# EAGLE library part 1013279X_AMPHENOL_2X25 (library ck)
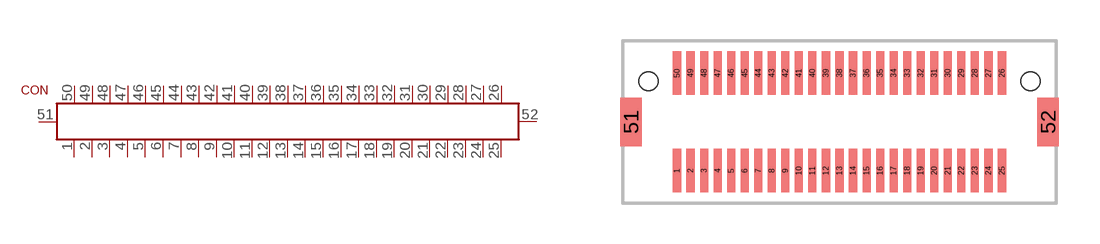
[diagram p29: symbol with the pads of 10132798-052100LF; footprint 10132798-052100LF]

Designator prefix CON

## 1013279X_AMPHENOL_2X25  [10132798-052100LF]
1  P$1
2  P$2
3  P$3
4  P$4
5  P$5
6  P$6
7  P$7
8  P$8
9  P$9
10  P$10
11  P$11
12  P$12
13  P$13
14  P$14
15  P$15
16  P$16
17  P$17
18  P$18
19  P$19
20  P$20
21  P$21
22  P$22
23  P$23
24  P$24
25  P$25
26  P$26
27  P$27
28  P$28
29  P$29
30  P$30
31  P$31
32  P$32
33  P$33
34  P$34
35  P$35
36  P$36
37  P$37
38  P$38
39  P$39
40  P$40
41  P$41
42  P$42
43  P$43
44  P$44
45  P$45
46  P$46
47  P$47
48  P$48
49  P$49
50  P$50
51  P$51
52  P$52

## Footprint 10132798-052100LF (pad centres in mm)
smd 0.3 x 1.6: 1 -6,-1.8; 2 -5.5,-1.8; 3 -5,-1.8; 4 -4.5,-1.8; 5 -4,-1.8; 6 -3.5,-1.8; 7 -3,-1.8; 8 -2.5,-1.8; 9 -2,-1.8; 10 -1.5,-1.8; 11 -1,-1.8; 12 -0.5,-1.8; 13 0,-1.8; 14 0.5,-1.8; 15 1,-1.8; 16 1.5,-1.8; 17 2,-1.8; 18 2.5,-1.8; 19 3,-1.8; 20 3.5,-1.8; 21 4,-1.8; 22 4.5,-1.8; 23 5,-1.8; 24 5.5,-1.8; 25 6,-1.8; 26 6,1.8; 27 5.5,1.8; 28 5,1.8; 29 4.5,1.8; 30 4,1.8; 31 3.5,1.8; 32 3,1.8; 33 2.5,1.8; 34 2,1.8; 35 1.5,1.8; 36 1,1.8; 37 0.5,1.8; 38 0,1.8; 39 -0.5,1.8; 40 -1,1.8; 41 -1.5,1.8; 42 -2,1.8; 43 -2.5,1.8; 44 -3,1.8; 45 -3.5,1.8; 46 -4,1.8; 47 -4.5,1.8; 48 -5,1.8; 49 -5.5,1.8; 50 -6,1.8
smd 0.8 x 1.8: 51 -7.7,0; 52 7.7,0
hole 0.7 at -7.05,1.5
hole 0.7 at 7.05,1.5